# Altium schematic symbol library ESD7L5P0DT5G.SchLib: 1 symbol
Pins are listed as number, name and electrical type; pins without a type are passive.

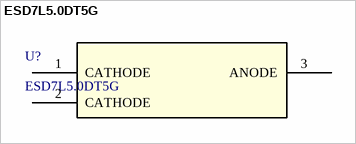
[diagram p0: symbol ESD7L5.0DT5G]

## ESD7L5.0DT5G
designator U?
TVS DIODE 5VWM 10.4VC SOT723; Manufacturer_Name: onsemi; Copyright: Copyright (C) 2025 Ultra Librarian. All rights reserved.; Manufacturer_Part_Number: ESD7L5.0DT5G; RefDes: RefDes; Type: Type
footprint SOT-723_0P85X1P25_ONS
pins: 1 CATHODE, 2 CATHODE, 3 ANODE